# EAGLE library part MCP4725 (library thomas_library)
The MCP4725 is a 12-bit DAC from Microchip
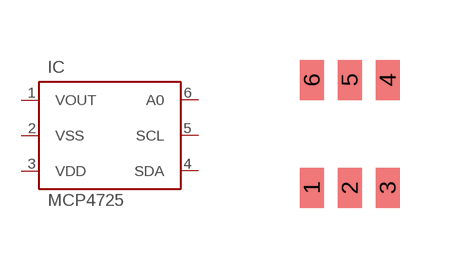
[diagram p6: symbol with the pads of SOT-23-6; footprint SOT-23-6]

Designator prefix IC

## MCP4725  [SOT-23-6]
1  VOUT
2  VSS
3  VDD
4  SDA
5  SCL
6  A0

## Footprint SOT-23-6 (pad centres in mm)
This SOT-23-6 footprint has 0.6mm x 1.0mm pads, 0.95mm spacing, 2.7mm diameter. Verified 8/15/2011
smd 0.6 x 1: 1 -0.95,-1.35; 2 0,-1.35; 3 0.95,-1.35; 4 0.95,1.35; 5 0,1.35; 6 -0.95,1.35